# Altium footprint library Discrete_Photoelectric_Optocouplers_SMD.PcbLib: 1 footprints
Each footprint in its own frame and in the unit in brackets; x right, y up, seen from the top. Pads: shape width x height; smd on the part's side, far side on the other; paste and mask are expansions set on the pad; w line width, h text height; cw(c..) or ccw(c..) is an arc to the next point about the centre after c.
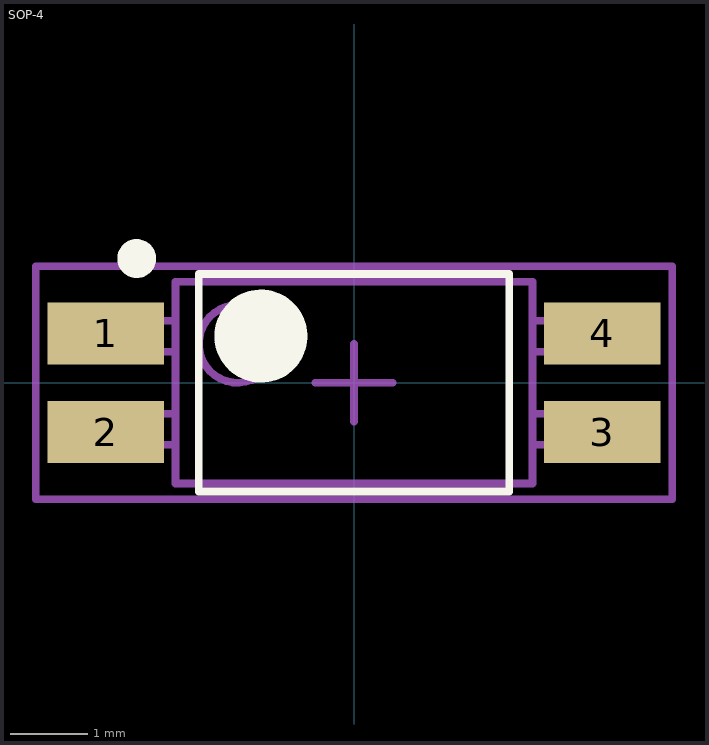
[diagram p0: the footprint, top view; thin cyan lines are the x and y axes]

## SOP-4 [mm]
height 15
pads (4):
  rect 1.5x0.8 smd: 1(-3.2,0.635) 2(-3.2,-0.635) 3(3.2,-0.635) 4(3.2,0.635)
Top Overlay:
  circle w0.25: c-2.8,1.6 r0.125
  circle w0.6: c-1.2,0.6 r0.3
  lines w0.1: -2,-1.4 -2,1.4 2,1.4 2,-1.4 -2,-1.4
Top Package:
  circle w0.1: c-1.5,0.5 r0.5
  lines w0.1: -2.3,-0.8 -3.3,-0.8 -3.3,-0.4 -2.3,-0.4 ; -2.3,0.4 -3.3,0.4 -3.3,0.8 -2.3,0.8 ; 2.3,-0.8 3.3,-0.8 3.3,-0.4 2.3,-0.4 ; 2.3,0.4 3.3,0.4 3.3,0.8 2.3,0.8 ; -2.3,-1.3 2.3,-1.3 2.3,1.3 -2.3,1.3 -2.3,-1.3
Top Comment:
  text ".Comment" at -1.702,-0.391 h1.2
Top Designator:
  text ".Designator" at -2.579,-0.349 h1.5
Top Border:
  lines w0.1: -0.5,0 0.5,0 ; 0,-0.5 0,0.5 ; -4.1,-1.5 4.1,-1.5 4.1,1.5 -4.1,1.5 -4.1,-1.5
3D body "SOP-4.stp": height 2.15, standoff 0.03, extent -3.5,-1.3 3.5,1.3